# Altium footprint library PcbLib1.PcbLib: 11 footprints
Each footprint in its own frame and in the unit in brackets; x right, y up, seen from the top. Pads: shape width x height; smd on the part's side, far side on the other; paste and mask are expansions set on the pad; w line width, h text height; cw(c..) or ccw(c..) is an arc to the next point about the centre after c.
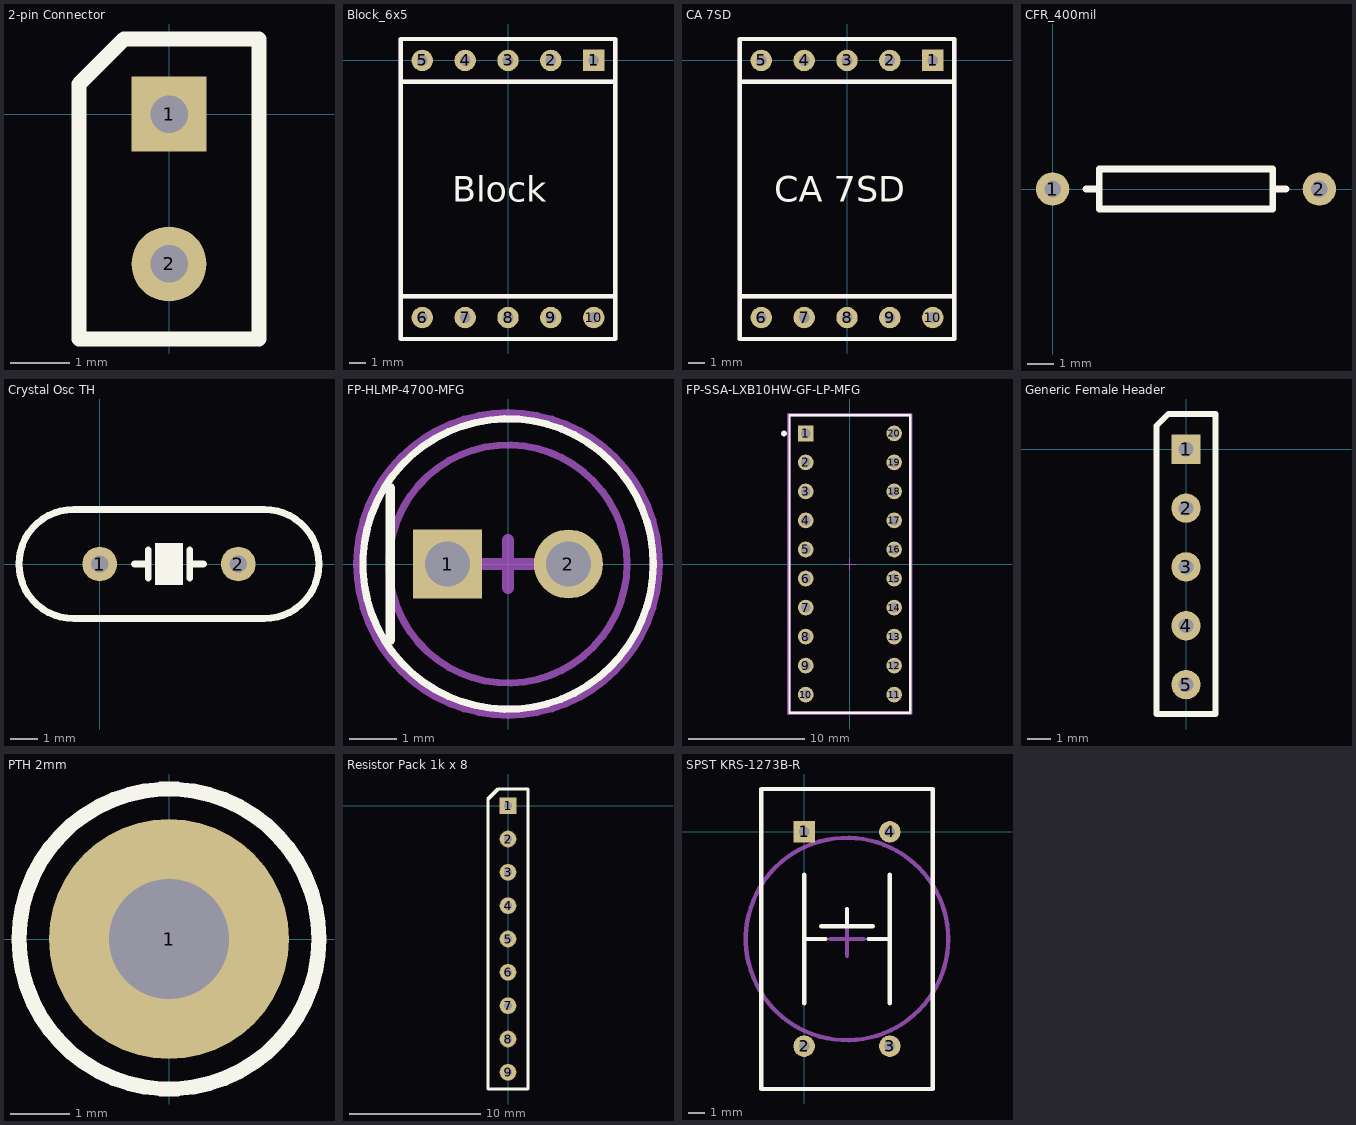
[diagram p0: the footprints below, top view; thin cyan lines are the x and y axes]

## 2-pin Connector [mil]
pads (2):
  rect 50x50 hole 25: 1(0,0)
  round 50 hole 25: 2(0,-100)
Top Overlay:
  lines w10: -60,-150 -60,20 -30,50 60,50 60,-150 -60,-150

## Block_6x5 [mil]
pads (10):
  rect 50x50 hole 25: 1(200,0)
  round 50 hole 25: 2(100,0) 3(0,0) 4(-100,0) 5(-200,0) 6(-200,-600) 7(-100,-600) 8(0,-600) 9(100,-600) 10(200,-600)
Top Overlay:
  lines w10: -250,-550 250,-550 ; -250,-50 250,-50 ; -250,-650 250,-650 250,50 -250,50 -250,-650
  text "Block" at -129.96,-329.99 h60
Laser Cutting:
  lines w10: -250,-550 250,-550 ; -250,-50 250,-50 ; -250,-650 250,-650 250,50 -250,50 -250,-650

## CA 7SD [mil]
pads (10):
  rect 50x50 hole 25: 1(200,0)
  round 50 hole 25: 2(100,0) 3(0,0) 4(-100,0) 5(-200,0) 6(-200,-600) 7(-100,-600) 8(0,-600) 9(100,-600) 10(200,-600)
Top Overlay:
  lines w10: -250,-550 250,-550 ; -250,-50 250,-50 ; -250,-650 -250,50 250,50 250,-650 -250,-650
  text "CA 7SD" at -169.94,-329.99 h60
Mechanical 1:
  lines w10: -250,-550 250,-550 ; -250,-50 250,-50 ; -250,-650 -250,50 250,50 250,-650 -250,-650
Laser Cutting:
  lines w10: -250,-550 250,-550 ; -250,-50 250,-50 ; -250,-650 -250,50 250,50 250,-650 -250,-650

## CFR_400mil [mil]
pads (2):
  round 50 hole 25: 1(0,0) 2(400,0)
Top Overlay:
  lines w10: 50,0 70,0 ; 330,0 350,0 ; 70,-30 330,-30 330,30 70,30 70,-30

## Crystal Osc TH [mil]
pads (2):
  round 50 hole 25: 1(0,0) 2(200,0)
Top Overlay:
  rectangle: 80,-30 120,30
  lines w10: 50,0 70,0 ; 70,-20 70,20 ; 130,-20 130,20 ; 130,0 150,0 ; -116.54,0 cw(c-37.8,0) -37.8,78.74 237.8,78.74 cw(c237.8,0) 316.54,0 ; -116.54,0 ccw(c-37.8,0) -37.8,-78.74 237.8,-78.74 ccw(c237.8,0) 316.54,0 ; -116.54,0 -116.54,0 ; 316.54,0 316.54,0

## FP-HLMP-4700-MFG [mm]
pads (2):
  rect 1.45x1.45 hole 0.95 paste-1000 mask+0: 1(-1.27,0)
  round 1.45 hole 0.95 paste-1000 mask+0: 2(1.27,0)
Top Overlay:
  circle w0.15: c0,0 r3.05
  lines w0.2: -2.475,-1.6 -2.475,1.6
Laser Cutting:
  circle w0.15: c0,0 r2.5
  lines w0.254: -0.5,0 0,0 ; 0,-0.5 0,0 ; 0,0.5 0,0 ; 0.5,0 0,0
Top Assembly:
  text ".Designator" at 0,0.188 h1
Top 3D Body:
  circle w0.15: c0,0 r3.05
Top Courtyard:
  lines w0.2: -3.15,0 ccw(c0,0) 3.15,0 ccw(c0,0) -3.15,0
Top Component Center:
  lines w0.1: -0.5,0 0.5,0 ; 0,-0.5 0,0.5
3D body "Diode_Broadcom_HLMP-4700_eec.STEP": height 0.25, standoff 0, extent -3.15,-3.15 3.15,3.15

## FP-SSA-LXB10HW-GF-LP-MFG [mm]
pads (20):
  rect 1.35x1.35 hole 0.85 paste-1000 mask+0: 1(-3.81,11.25)
  round 1.35 hole 0.85 paste-1000 mask+0: 2(-3.81,8.75) 3(-3.81,6.25) 4(-3.81,3.75) 5(-3.81,1.25) 6(-3.81,-1.25) 7(-3.81,-3.75) 8(-3.81,-6.25) 9(-3.81,-8.75) 10(-3.81,-11.25) 11(3.81,-11.25) 12(3.81,-8.75) 13(3.81,-6.25) 14(3.81,-3.75) 15(3.81,-1.25) 16(3.81,1.25) 17(3.81,3.75) 18(3.81,6.25) 19(3.81,8.75) 20(3.81,11.25)
Top Overlay:
  circle w0.25: c-5.68,11.25 r0.125
  lines w0.2: -5.205,-12.825 5.205,-12.825 5.205,12.825 -5.205,12.825 -5.205,-12.825
Laser Cutting:
  lines w0.2: -5.205,-12.825 5.205,-12.825 5.205,12.825 -5.205,12.825 -5.205,-12.825
Top Assembly:
  lines w0.2: -5.305,-12.925 5.305,-12.925 5.305,12.925 -5.305,12.925 -5.305,-12.925
  text ".Designator" at 0,0.188 h1
Top 3D Body:
  lines w0.2: -5.205,-12.825 5.205,-12.825 5.205,12.825 -5.205,12.825 -5.205,-12.825
Top Courtyard:
  lines w0.2: -5.305,-12.925 5.305,-12.925 5.305,12.925 -5.305,12.925 -5.305,-12.925
Top Component Center:
  lines w0.1: -0.5,0 0.5,0 ; 0,-0.5 0,0.5
3D body "Diode_lumex_SSA-LXB10HW-GF-LP_eec.STEP": height 0.25, standoff 0, extent -5.305,-12.925 5.305,12.925

## Generic Female Header [mil]
pads (5):
  rect 50x50 / inner rect 100x50 / far side rect 50x50 hole 25: 1(0,0)
  round 50 / inner oval 100x50 / far side round 50 hole 25: 2(0,-100) 3(0,-200) 4(0,-300) 5(0,-400)
Top Overlay:
  lines w10: -50,-450 50,-450 50,60 -30,60 -50,40 -50,-450

## PTH 2mm [mil]
pads (1):
  round 160 hole 80: 1(0,0)
Top Overlay:
  circle w10: c0,0 r100
Laser Cutting:
  circle w10: c0,0 r39.37
  lines w10: -19.68,0 0,0 ; 0,-19.68 0,0 ; 0,19.68 0,0 ; 19.68,0 0,0

## Resistor Pack 1k x 8 [mil]
pads (9):
  rect 50x50 hole 25: 1(0,0)
  round 50 hole 25: 2(0,-100) 3(0,-200) 4(0,-300) 5(0,-400) 6(0,-500) 7(0,-600) 8(0,-700) 9(0,-800)
Top Overlay:
  lines w10: -60,-850 60,-850 60,50 -30,50 -60,20 -60,-850

## SPST KRS-1273B-R [mil]
pads (4):
  rect 50x50 hole 25: 1(0,0)
  round 50 hole 25: 2(0,-500) 3(200,-500) 4(200,0)
Top Overlay:
  lines w10: 0,-400 0,-100 ; 0,-250 50,-250 ; 40,-220 160,-220 ; 100,-220 100,-180 ; 150,-250 200,-250 ; 200,-400 200,-100 ; -100,-600 300,-600 300,100 -100,100 -100,-600
Laser Cutting:
  circle w10: c100,-250 r236.22
  lines w10: 60.63,-250 100,-250 ; 100,-289.37 100,-250 ; 100,-210.63 100,-250 ; 139.37,-250 100,-250